# Altium footprint library V2.3.PcbLib: 43 footprints (part 3 of 3)
Each footprint in its own frame and in the unit in brackets; x right, y up, seen from the top. Pads: shape width x height; smd on the part's side, far side on the other; paste and mask are expansions set on the pad; w line width, h text height; cw(c..) or ccw(c..) is an arc to the next point about the centre after c.
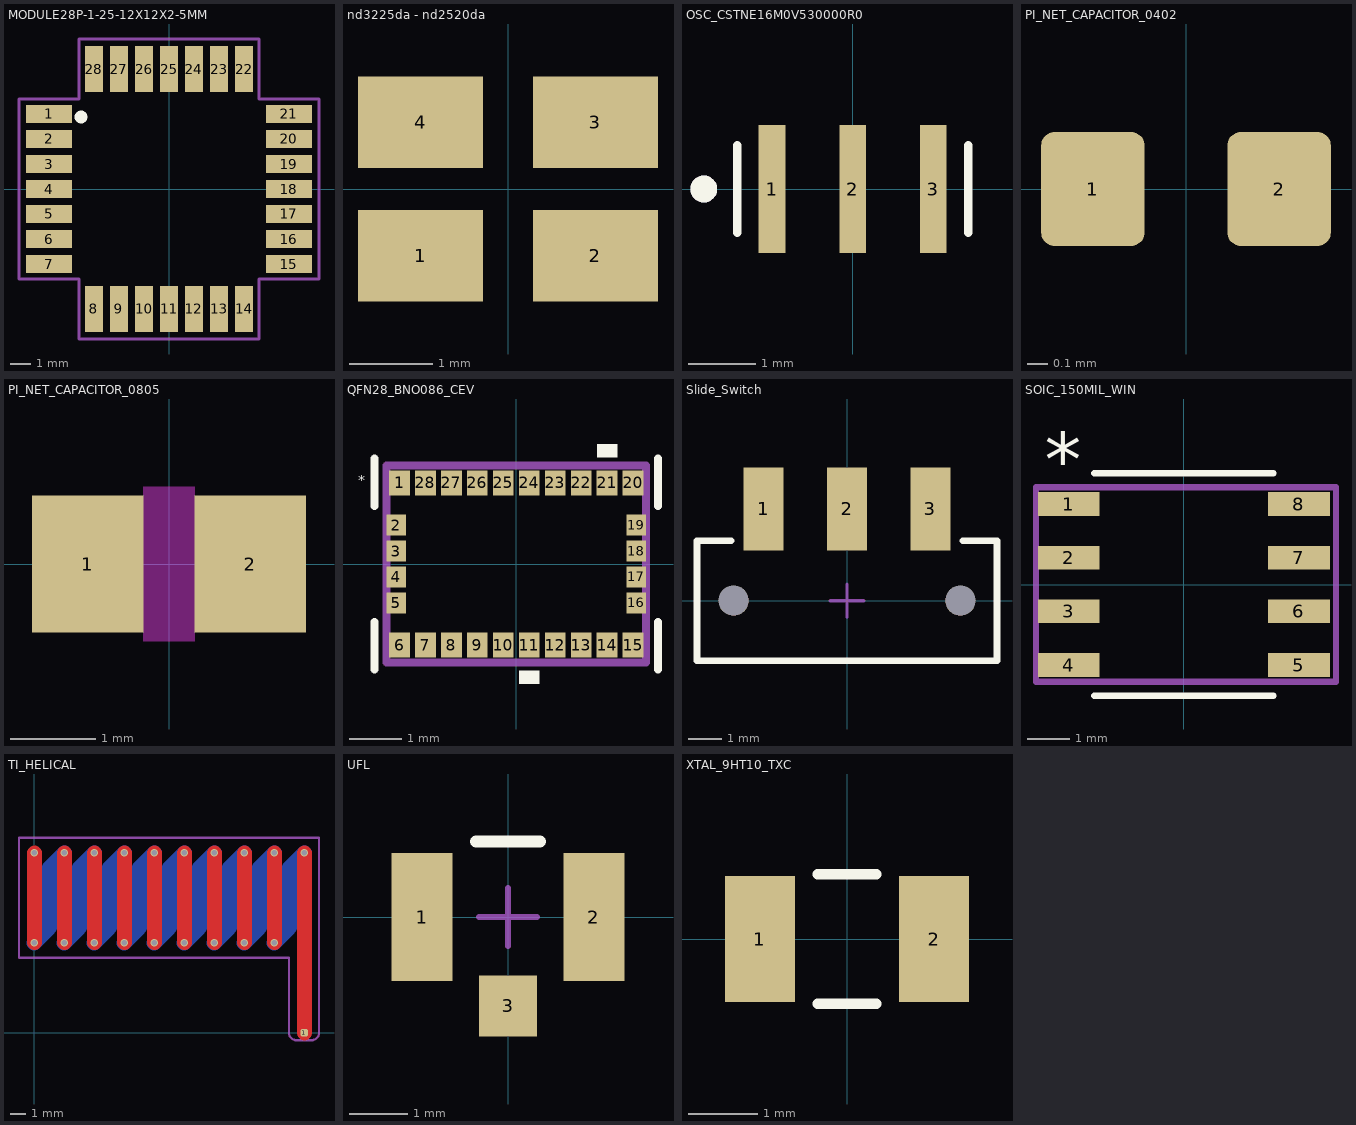
[diagram p2: the footprints below, top view; thin cyan lines are the x and y axes]

## MODULE28P-1-25-12X12X2-5MM [mm]
pads (28):
  rect 2.3x0.9 smd: 1(-6,3.75) 2(-6,2.5) 3(-6,1.25) 4(-6,0) 5(-6,-1.25) 6(-6,-2.5) 7(-6,-3.75) 15(6,-3.75) 16(6,-2.5) 17(6,-1.25) 18(6,0) 19(6,1.25) 20(6,2.5) 21(6,3.75)
  rect 0.9x2.3 smd: 8(-3.75,-6) 9(-2.5,-6) 10(-1.25,-6) 11(0,-6) 12(1.25,-6) 13(2.5,-6) 14(3.75,-6) 22(3.75,6) 23(2.5,6) 24(1.25,6) 25(0,6) 26(-1.25,6) 27(-2.5,6) 28(-3.75,6)
Top Overlay:
  circle w0.381: c-4.4,3.6 r0.127
Top Courtyard:
  lines w0.152: -7.5,-4.5 -4.5,-4.5 -4.5,-5 -4.5,-7.5 4.5,-7.5 4.5,-4.5 7.5,-4.5 7.5,4.5 4.5,4.5 4.5,7.5 -4.5,7.5 -4.5,4.5 -7.5,4.5 -7.5,-4.5
3D body "Wio_E5.step": height 2.49, standoff 0, extent -7.15,-7.15 7.15,7.15

## nd3225da - nd2520da [mm] "Crystal SMD 3.2x2.5mm compatible with 2.5x2.0mm"
height 0.8
pads (4):
  rect 1.5x1.1 smd mask+0.05: 1(-1.05,-0.8) 2(1.05,-0.8) 3(1.05,0.8) 4(-1.05,0.8)

## OSC_CSTNE16M0V530000R0 [mm]
pads (3):
  rect 0.4x1.9 smd: 1(-1.2,0) 2(0,0) 3(1.2,0)
Top Overlay:
  circle w0.2: c-2.22,0 r0.1
  lines w0.127: -1.72,-0.65 -1.72,0.65 ; 1.72,-0.65 1.72,0.65
Mechanical 13:
  circle w0.2: c-2.22,0 r0.1

## PI_NET_CAPACITOR_0402 [mm] "Chip Capacitor, Body 1.0x0.5mm, Height 0.6mm, NO SILK"
height 0.6
pads (2):
  rrect25% 0.5x0.55 smd: 1(-0.45,0) 2(0.45,0)

## PI_NET_CAPACITOR_0805 [mm] "0805 ko in pi net"
pads (2):
  rect 1.3x1.6 smd: 1(-0.95,0) 2(0.95,0)
Keep-Out Layer:
  region: -0.3,0.9 -0.3,-0.9 0.3,-0.9 0.3,0.9
3D body "0805_Res.step": height 0.6, standoff 0, extent -1,-0.625 1,0.625

## QFN28_BNO086_CEV [mil]
pads (28):
  rect 15.75x19 smd paste+0 mask+0: 1(-88.58,61.5) 6(-88.58,-61.5) 7(-68.9,-61.5) 8(-49.21,-61.5) 9(-29.53,-61.5) 10(-9.84,-61.5) 11(9.84,-61.5) 12(29.53,-61.5) 13(49.21,-61.5) 14(68.9,-61.5) 15(88.58,-61.5) 20(88.58,61.5) 21(68.9,61.5) 22(49.21,61.5) 23(29.53,61.5) 24(9.84,61.5) 25(-9.84,61.5) 26(-29.53,61.5) 27(-49.21,61.5) 28(-68.9,61.5)
  rect 15x15.75 smd paste+0 mask+0: 2(-91,29.53) 3(-91,9.84) 4(-91,-9.84) 5(-91,-29.53) 16(91,-29.53) 17(91,-9.84) 18(91,9.84) 19(91,29.53)
Top Overlay:
  region: 76.4,81 61.4,81 61.4,91 76.4,91
  region: 17.34,-81 2.34,-81 2.34,-91 17.34,-91
  lines w6: -107.5,-80 -107.5,-44.05 ; -107.5,44.05 -107.5,80 ; 107.5,-80 107.5,-44.05 ; 107.5,44.05 107.5,80
  text "*" at -120.08,59.71 h7.87
Top Courtyard:
  lines w6: -98.43,-74.8 -98.43,74.8 98.43,74.8 98.43,-74.8 -98.43,-74.8
3D body "BNO085.STEP": height 46.46, standoff 0, extent -102.36,-74.8 102.36,74.8

## Slide_Switch [mm] "JS102011SAQN"
pads (5):
  rect 1.2x2.5 smd paste+0 mask+0: 1(-2.5,2.75) 2(0,2.75) 3(2.5,2.75)
  round 0.9 hole 0.9 unplated paste-2539.97 mask+0: ""(-3.4,0) ""(3.4,0)
Top Overlay:
  lines w0.2: -3.475,1.8 -4.5,1.8 -4.5,-1.8 4.5,-1.8 4.5,1.8 3.475,1.8
Top Component Center:
  lines w0.1: -0.5,0 0.5,0 ; 0,-0.5 0,0.5
3D body "Slide_Switch_JS102011SAQN.STEP": height 3.22, standoff -1.08, extent -4.5,-3.75 4.5,3.75

## SOIC_150MIL_WIN [mil]
pads (8):
  rect 57.5x22 smd paste+0 mask+0: 1(-107.25,75) 2(-107.25,25) 3(-107.25,-25) 4(-107.25,-75) 5(107.25,-75) 6(107.25,-25) 7(107.25,25) 8(107.25,75)
Top Overlay:
  lines w6: -83.5,-103.5 83.5,-103.5 ; -83.5,103.5 83.5,103.5
  text "*" at -129.75,92 h50
Top Courtyard:
  lines w6: -137.8,-90.55 -137.8,90.55 -102.36,90.55 -82.68,90.55 141.73,90.55 141.73,-90.55 -137.8,-90.55
3D body "FLASH_W25Q16JVSNIQ.step": height 69.09, standoff 0, extent -122.01,-98.5 122.01,98.5

## TI_HELICAL [mm] "https://www.ti.com/lit/an/swra416/swra416.pdf?ts=1758177641491&ref_url=https%253A%252F%252Fduckduckgo.com%252F"
pads (1):
  rrect50% 0.5x0.5 smd mask+0: 1(18.024,0)
via 18.024,12 diameter 0.5 hole 0.38
via 16.024,6 diameter 0.5 hole 0.38
via 16.024,12 diameter 0.5 hole 0.38
via 14.024,12 diameter 0.5 hole 0.38
via 14.024,6 diameter 0.5 hole 0.38
via 12.024,12 diameter 0.5 hole 0.38
via 12.024,6 diameter 0.5 hole 0.38
via 10.024,12 diameter 0.5 hole 0.38
via 10.024,6 diameter 0.5 hole 0.38
via 8.024,12 diameter 0.5 hole 0.38
via 8.024,6 diameter 0.5 hole 0.38
via 6.024,12 diameter 0.5 hole 0.38
via 6.024,6 diameter 0.5 hole 0.38
via 4.024,12 diameter 0.5 hole 0.38
via 4.024,6 diameter 0.5 hole 0.38
via 2.024,12 diameter 0.5 hole 0.38
via 2.024,6 diameter 0.5 hole 0.38
via 0.024,12 diameter 0.5 hole 0.38
via 0.024,6 diameter 0.5 hole 0.38
Top Layer:
  lines w1: 0.024,6 0.024,12 ; 2.024,6 2.024,12 ; 4.024,6 4.024,12 ; 6.024,6 6.024,12 ; 8.024,6 8.024,12 ; 10.024,6 10.024,12 ; 12.024,6 12.024,12 ; 14.024,6 14.024,12 ; 16.024,6 16.024,12 ; 18.024,0 18.024,12
Bottom Layer:
  lines w1: 0,5.977 1,6.977 ; 1.024,7.001 1.024,11 2.024,12 ; 2,5.977 3,6.977 ; 3.024,7.001 3.024,11 4.024,12 ; 4,5.977 5,6.977 ; 5.024,7.001 5.024,11 6.024,12 ; 6,5.977 7,6.977 ; 7.024,7.001 7.024,11 8.024,12 ; 8,5.977 9,6.977 ; 9.024,7.001 9.024,11 10.024,12 ; 10,5.977 11,6.977 ; 11.024,7.001 11.024,11 12.024,12 ; 12,5.977 13,6.977 ; 13.024,7.001 13.024,11 14.024,12 ; 14,5.977 15,6.977 ; 15.024,7.001 15.024,11 16.024,12 ; 16,5.977 17,6.977 ; 17.024,7.001 17.024,11 18.024,12
Top Courtyard:
  lines w0.152: -1,5 17,5 17,0 ccw(c17.5,0) 17.5,-0.5 18.5,-0.5 ccw(c18.5,0) 19,0 19,13 -1,13 -1,5

## UFL [mm] "SMT, 3-Leads, Body 2.6x2.6mm"
height 1.25
pads (3):
  rect 1.05x2.2 smd: 1(-1.475,0) 2(1.475,0)
  rect 1x1.05 smd: 3(0,-1.525)
Top Overlay:
  lines w0.2: -0.55,1.3 0.55,1.3
Mechanical 15:
  lines w0.1: -0.5,0 0.5,0 ; 0,-0.5 0,0.5
3D body: height 0.35, standoff 0, extent -1.3,-1.3 1.3,1.3
3D body: height 1.25, standoff 0, extent -1,-1 1,1

## XTAL_9HT10_TXC [mil]
pads (2):
  rect 39.5x71 smd paste+0 mask+0: 1(-49.25,0) 2(49.25,0)
Top Overlay:
  lines w6: -16.44,-36.5 16.44,-36.5 ; -16.44,36.5 16.44,36.5